# EAGLE library part LTC2312-14 (library marionette)
ADC, 14bit, 500ksps LTC2312-14, mfg.: Linear, pkg.: TSOT23-8 (TS8), mfg part no.: LTC2312ITS8-14#TRMPBF, Digikey part no.: LTC2312ITS8-14#TRMPBFCT-ND
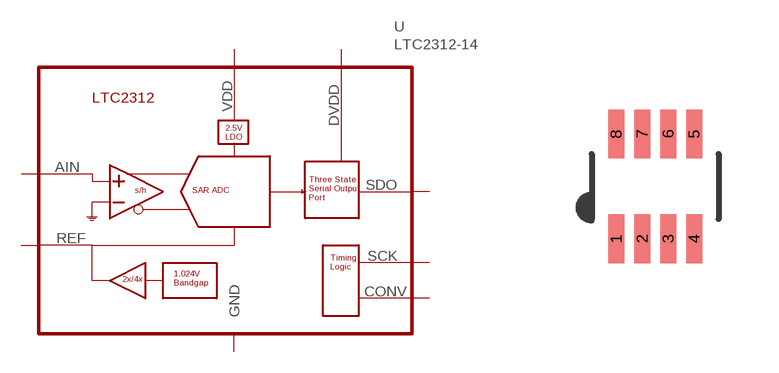
[diagram p18: symbol with the pads of TSOT23-8; footprint TSOT23-8]

Designator prefix U

## LTC2312-14  [TSOT23-8]
1  VDD  pwr
2  REF  in
3  GND  pwr
4  AIN  in
5  DVDD  pwr
6  SDO  out
7  SCK
8  CONV

## Footprint TSOT23-8 (pad centres in mm)
TSOT-23 8 lead package from linear ltc2312-14 datasheet
smd 0.4 x 1.22: 1 -0.975,-1.31; 2 -0.325,-1.31; 3 0.325,-1.31; 4 0.975,-1.31; 5 0.975,1.31; 6 0.325,1.31; 7 -0.325,1.31; 8 -0.975,1.31